# EAGLE library part CAT24C256WI-GT3OSCT-ND (library ON Semiconductor)
http://www.skyworksinc.com/uploads/documents/200123K.pdf
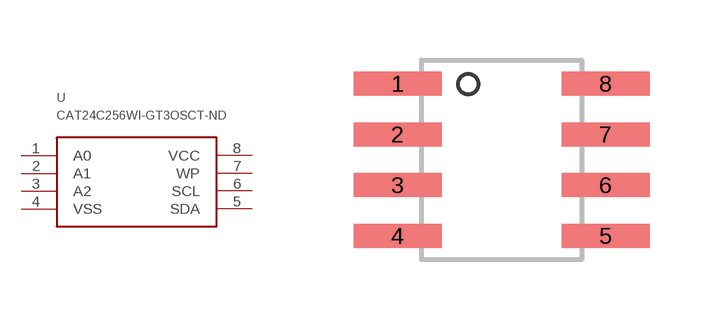
[diagram p0: symbol with the pads of CAT24C256WI-GT3; footprint CAT24C256WI-GT3]

Designator prefix -

## CAT24C256WI-GT3OSCT-ND (PARTNO: CAT24C256WI-GT3)  [CAT24C256WI-GT3]
1  A0
2  A1
3  A2
4  VSS
5  SDA
6  SCL
7  WP
8  VCC

## Footprint CAT24C256WI-GT3 (pad centres in mm)
http://www.onsemi.com/pub_link/Collateral/CAT24C256-D.PDF
smd 2.2 x 0.6: 1 -2.6,1.905; 2 -2.6,0.635; 3 -2.6,-0.635; 4 -2.6,-1.905; 5 2.6,-1.905; 6 2.6,-0.635; 7 2.6,0.635; 8 2.6,1.905